# EAGLE library part DAC714P (library burr-brown)
16-Bit, DAC
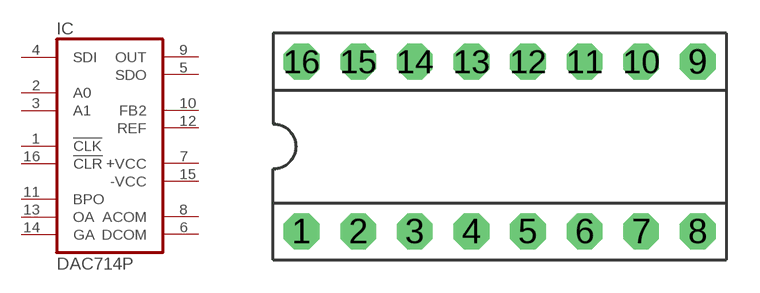
[diagram p187: symbol with the pads of DIP-16; footprint DIP-16]

Designator prefix IC

## DAC714P  [DIP-16]
1  !CLK  in
2  A0  in
3  A1  in
4  SDI  in
5  SDO  out
6  DCOM  pwr
7  +VCC  pwr
8  ACOM  pwr
9  OUT  out
10  FB2  out
11  BPO  pas
12  REF  out
13  OA  pas
14  GA  pas
15  -VCC  pwr
16  !CLR  in

## Footprint DIP-16 (pad centres in mm)
drill 0.813 pad 1.6 octagon: 1 -8.89,-3.81; 2 -6.35,-3.81; 3 -3.81,-3.81; 4 -1.27,-3.81; 5 1.27,-3.81; 6 3.81,-3.81; 7 6.35,-3.81; 8 8.89,-3.81; 9 8.89,3.81; 10 6.35,3.81; 11 3.81,3.81; 12 1.27,3.81; 13 -1.27,3.81; 14 -3.81,3.81; 15 -6.35,3.81; 16 -8.89,3.81